# Altium footprint library DF201607111.PcbLib: 111 footprints (part 1 of 7)
Each footprint in its own frame and in the unit in brackets; x right, y up, seen from the top. Pads: shape width x height; smd on the part's side, far side on the other; paste and mask are expansions set on the pad; w line width, h text height; cw(c..) or ccw(c..) is an arc to the next point about the centre after c.
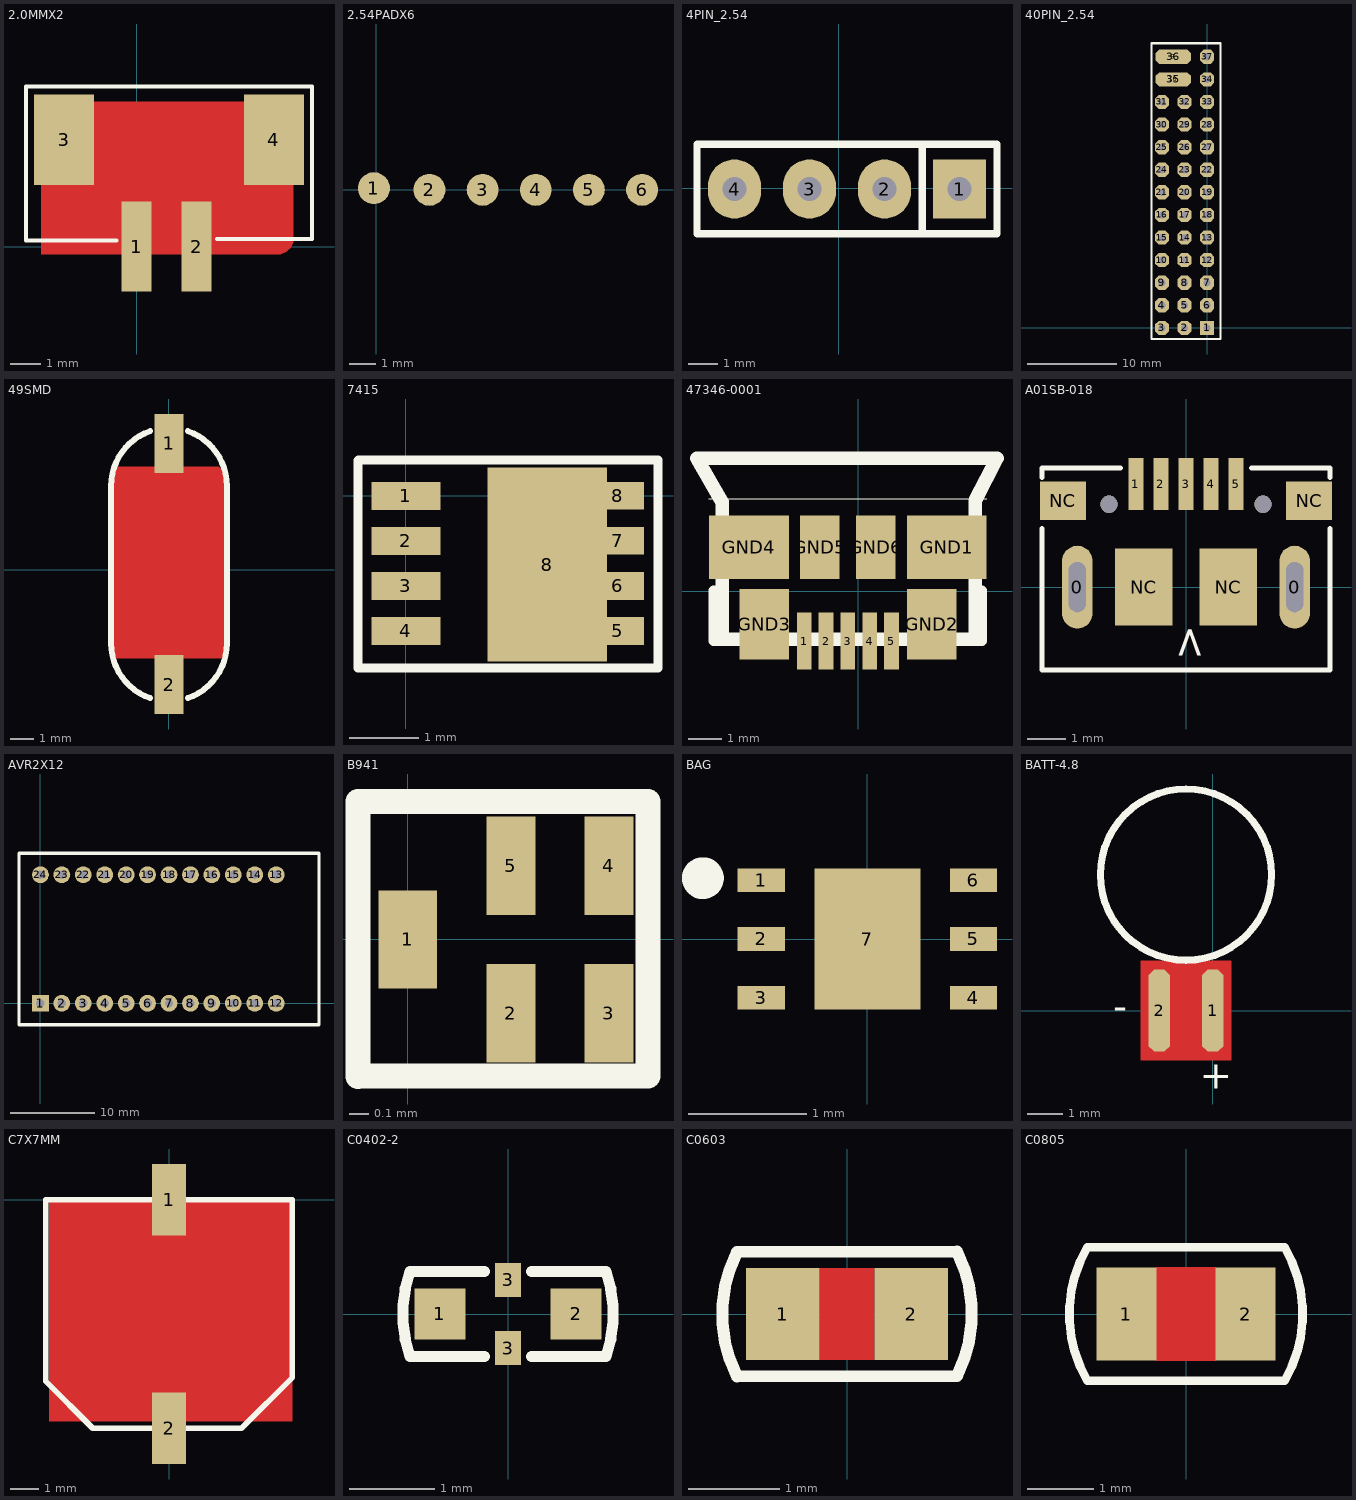
[diagram p0: the footprints below, top view; thin cyan lines are the x and y axes]

## 2.0MMX2 [mm]
pads (4):
  rect 1x3 smd: 1(0,0) 2(2,0)
  rect 2x3 smd: 3(-2.413,3.556) 4(4.572,3.556)
Top Layer:
  pour cut-out: -3.175,4.826 5.08,4.826 5.105,4.826 5.152,4.807 5.188,4.771 5.207,4.724 5.207,4.699 5.207,0.254 5.207,0.153 5.13,-0.034 4.987,-0.177 4.8,-0.254 4.699,-0.254 -3.175,-0.254
Top Overlay:
  lines w0.13: -0.66,0.203 -3.683,0.203 -3.683,5.334 5.842,5.334 5.842,0.254 2.68,0.254

## 2.54PADX6 [mm]
pads (6):
  round 1.2 smd: 1(-0.089,0.064) 2(2,0) 3(4,0) 4(6,0) 5(8,0) 6(10,0)

## 4PIN_2.54 [mm]
pads (4):
  rect 1.8x2 hole 0.8: 1(4.089,-0.025)
  oval 1.8x2 hole 0.8: 2(1.549,-0.025) 3(-0.991,-0.025) 4(-3.531,-0.025)
Top Overlay:
  lines w0.254: 2.819,-1.549 2.819,1.499 ; -4.801,-1.549 5.359,-1.549 5.359,1.499 -4.801,1.499 -4.801,-1.549

## 40PIN_2.54 [mm]
pads (39):
  rect 1.6x1.6 hole 0.8: 1(0,0)
  oct 1.6x1.6 hole 0.8: 2(-2.54,0) 3(-5.08,0) 4(-5.08,2.54) 5(-2.54,2.54) 6(0,2.54) 7(0,5.08) 8(-2.54,5.08) 9(-5.08,5.08) 10(-5.08,7.62) 11(-2.54,7.62) 12(0,7.62) 13(0,10.16) 14(-2.54,10.16) 15(-5.08,10.16) 16(-5.08,12.7) 17(-2.54,12.7) 18(0,12.7) 19(0,15.24) 20(-2.54,15.24) 21(-5.08,15.24) 22(0,17.78) 23(-2.54,17.78) 24(-5.08,17.78) 25(-5.08,20.32) 26(-2.54,20.32) 27(0,20.32) 28(0,22.86) 29(-2.54,22.86) 30(-5.08,22.86) 31(-5.08,25.4) 32(-2.54,25.4) 33(0,25.4) 34(0,27.94) 37(0,30.48)
  oct 2x1 on Keep-Out: 9(-3.81,30.48) 10(-3.81,27.94)
  oct 4x1.6 all layers, no hole: 35(-3.81,27.94) 36(-3.81,30.48)
Top Overlay:
  lines w0.254: -6.25,-1.25 -6.25,32 1.5,32 1.5,-1.25 -6.25,-1.25

## 49SMD [mm]
pads (2):
  rect 1.27x2.54 smd: 1(0.009,5.459) 2(0.009,-4.955)
Top Layer:
  pour cut-out: 2.159,4.445 2.413,4.191 2.413,-3.81 -2.413,-3.81 -2.413,4.445
Top Overlay:
  lines w0.254: -2.491,3.625 -2.491,-3.175 ccw(c0.009,-3.175) -0.8,-5.54 ; -2.491,3.625 cw(c0.009,3.625) -0.8,5.991 ; 0.818,-5.54 ccw(c0.009,-3.175) 2.509,-3.175 2.509,3.63 ; 0.818,5.991 cw(c0.009,3.625) 2.509,3.625

## 7415 [mm]
pads (9):
  rect 1x0.405 smd: 1(0,0) 2(0,-0.65) 3(0,-1.3) 4(0,-1.95)
  rect 0.76x0.4 smd: 5(3.053,-1.95) 6(3.053,-1.3) 7(3.053,-0.65) 8(3.053,0)
  rect 1.725x2.8 smd: 8(2.041,-0.993)
Top Overlay:
  lines w0.13: -0.692,-2.484 3.636,-2.484 3.636,0.517 -0.682,0.517 -0.692,0.507 -0.692,-2.484

## 47346-0001 [mm]
pads (11):
  rect 0.44x1.7 smd: 1(-1.614,-1.481) 2(-0.964,-1.481) 3(-0.314,-1.481) 4(0.336,-1.481) 5(0.986,-1.481)
  rect 2.375x1.9 smd: GND1(2.636,1.319) GND4(-3.264,1.319)
  rect 1.475x2.1 smd: GND2(2.186,-0.981) GND3(-2.814,-0.981)
  rect 1.175x1.9 smd: GND5(-1.151,1.319) GND6(0.524,1.319)
Top Overlay:
  lines w0.008: -4.464,2.769 3.836,2.769
  lines w0.305: -4.314,0.019 -4.314,-1.481 -3.814,-1.481 ; 3.186,-1.481 3.686,-1.481 3.686,0.019
  lines w0.406: -4.814,3.969 -4.064,2.669 -4.064,-1.431 3.486,-1.431 3.486,2.719 4.136,3.969 -4.814,3.969

## A01SB-018 [mm]
pads (11):
  oval 0.8x2.15 hole 0.45 slot 1.3 at 90 deg: 0(-2.825,0) 0(2.825,0)
  rect 0.4x1.35 smd paste+0: 1(-1.3,2.675) 2(-0.65,2.675) 3(0,2.675) 4(0.65,2.675) 5(1.3,2.675)
  rect 1.2x1 smd: NC(-3.2,2.25) NC(3.2,2.25)
  rect 1.5x2 smd: NC(-1.1,0) NC(1.1,0)
via 2,2.15 diameter 0.45 hole 0.45
via -2,2.15 diameter 0.45 hole 0.45
Top Overlay:
  lines w0.13: -3.75,1.524 -3.75,-2.15 3.75,-2.15 3.75,1.524 ; -3.75,2.854 -3.75,3.1 -1.703,3.1 ; 1.703,3.1 3.75,3.1 3.75,2.854
  text ">" at 0.45,-1.905 h0.8

## AVR2X12 [mm]
pads (24):
  rect 2x2 hole 1: 1(0,0)
  round 2 hole 1: 2(2.54,0) 3(5.08,0) 4(7.62,0) 5(10.16,0) 6(12.7,0) 7(15.24,0) 8(17.78,0) 9(20.32,0) 10(22.86,0) 11(25.4,0) 12(27.94,0) 13(27.94,15.24) 14(25.4,15.24) 15(22.86,15.24) 16(20.32,15.24) 17(17.78,15.24) 18(15.24,15.24) 19(12.7,15.24) 20(10.16,15.24) 21(7.62,15.24) 22(5.08,15.24) 23(2.54,15.24) 24(0,15.24)
Top Overlay:
  lines w0.4: 30.48,-2.54 33.02,-2.54 33.02,0 ; 30.48,17.78 33.02,17.78 33.02,-1.27 ; 31.75,-2.54 -2.54,-2.54 -2.54,15.24 -2.54,17.78 31.75,17.78

## B941 [mm]
height 0.8
pads (5):
  rect 0.3x0.5 smd: 1(0,0)
  rect 0.25x0.5 smd: 2(0.525,-0.376) 3(1.025,-0.376) 4(1.025,0.376) 5(0.525,0.376)
Top Overlay:
  lines w0.127: -0.254,-0.699 -0.254,0.704 1.224,0.704 1.224,-0.696 -0.246,-0.696

## BAG [mm]
pads (7):
  rect 0.4x0.2 smd: 1(-0.9,0.5) 2(-0.9,0) 3(-0.9,-0.5) 4(0.9,-0.5) 5(0.9,0) 6(0.9,0.5)
  rect 0.9x1.2 smd: 7(0,0)
Top Overlay:
  circle w0.254: c-1.396,0.516 r0.05

## BATT-4.8 [mm]
height 0.8
pads (2):
  oct 0.6x2.3 smd: 1(0,0) 2(-1.5,0)
Top Layer:
  pour cut-out: -2.02,-1.397 0.52,-1.397 0.52,1.397 -2.02,1.397
Top Overlay:
  circle w0.2: c-0.75,3.81 r2.4
  text "+" at -0.369,-2.196 h0.8
  text "-" at -2.782,-0.254 h0.8

## C7X7MM [mm]
pads (2):
  rect 1.2x2.5 smd: 1(0,0) 2(0,-8)
Top Layer:
  pour cut-out: -4.191,0 4.191,0 4.318,-0.127 4.318,-7.747 -4.191,-7.747
Top Overlay:
  lines w0.2: -4.318,-6.35 -2.667,-8.001 2.54,-8.001 4.318,-6.223 4.318,0 0,0 -4.318,0 -4.318,-6.35

## C0402-2 [mm]
pads (4):
  rect 0.6x0.6 smd: 1(-0.8,0) 2(0.8,0)
  rect 0.3x0.4 smd: 3(0,-0.4) 3(0,0.4)
Top Overlay:
  lines w0.13: -1.154,-0.5 -0.275,-0.5 ; -1.154,-0.493 cw(c0.263,0) -1.154,0.493 ; -1.154,0.5 -0.275,0.5 ; 0.275,-0.5 1.154,-0.5 ; 0.275,0.5 1.154,0.5 ; 1.154,-0.493 ccw(c-0.263,0) 1.154,0.493

## C0603 [mm]
pads (2):
  rect 0.8x1 smd: 1(-0.7,0) 2(0.7,0)
Top Layer:
  pour cut-out: -0.3,0.5 -0.3,-0.5 0.3,-0.5 0.3,0.5
Top Overlay:
  lines w0.13: -1.2,-0.682 cw(c0.138,-0.004) -1.2,0.675 ; -1.2,-0.68 1.2,-0.68 ; -1.2,0.68 1.2,0.68 ; 1.2,-0.675 ccw(c-0.138,0.004) 1.2,0.682

## C0805 [mm]
pads (2):
  rect 0.9x1.4 smd: 1(-0.893,0) 2(0.893,0)
Top Layer:
  pour cut-out: 0.45,0.7 0.45,-0.7 -0.45,-0.7 -0.45,0.7
Top Overlay:
  lines w0.13: -1.482,-1 cw(c0.25,0) -1.482,1 1.482,1 cw(c-0.25,0) 1.482,-1 -1.482,-1